# EAGLE library part GHI-IC_SN74LVC2G241DCUR (library BeagleBone_Black_Wireless)
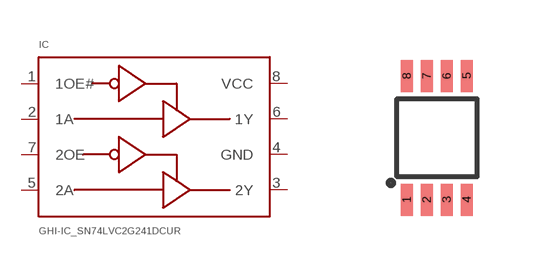
[diagram p3: symbol with the pads of GHI-IC_VSSOP8(TI); footprint GHI-IC_VSSOP8(TI)]

Designator prefix IC

## GHI-IC_SN74LVC2G241DCUR  [GHI-IC_VSSOP8(TI)]
1  1OE#
2  1A
3  2Y
4  GND
5  2A
6  1Y
7  2OE
8  VCC

## Footprint GHI-IC_VSSOP8(TI) (pad centres in mm)
smd 0.3 x 0.8: 1 -0.75,-1.55; 2 -0.25,-1.55; 3 0.25,-1.55; 4 0.75,-1.55; 5 0.75,1.55; 6 0.25,1.55; 7 -0.25,1.55; 8 -0.75,1.55